# EAGLE library part HMC5843 (library 3DRobotics_Master_Library)
The Honeywell HMC5843 is a surface mount multi-chip module designed for low field magnetic sensing with a digital interface for applications such as low cost compassing and magnetometry. The HMC5843 includes our state of the art 1043 series magneto-resistive sensors plus Honeywell developed ASIC containing amplification, strap drivers, offset cancellation, 12-bit ADC and an I2C serial bus interface. The HMC5843 is in a 4.0 by 4.0 by 1.3mm surface mount leadless chip carrier (LCC). Applications for the HMC5843 include Consumer Electronics, Auto Navigation Systems, Personal Navigation Devices, and Magnetometers. Desing by Jordi Munoz
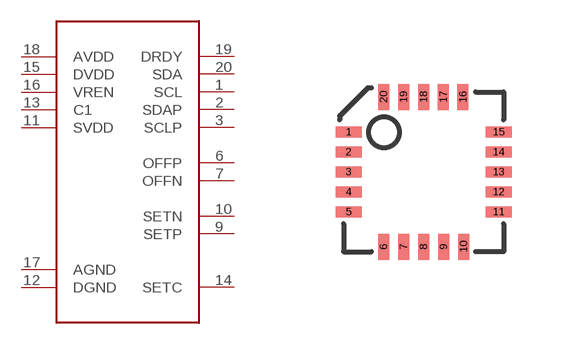
[diagram p5: symbol with the pads of LPCC20; footprint LPCC20]

Designator prefix IC

## HMC5843 (DATASHEET: http://www51.honeywell.com/aero/common/documents/myaerospacecatalog-documents/Defense_Brochures-documents/HMC5843.pdf; MFGPN: HMC5843-TR)  [LPCC20]
1  SCL
2  SDAP
3  SCLP
6  OFFP
7  OFFN
9  SETP
10  SETN
11  SVDD
12  DGND  pwr
13  C1
14  SETC
15  DVDD  pwr
16  VREN
17  AGND  pwr
18  AVDD  pwr
19  DRDY
20  SDA

## Footprint LPCC20 (pad centres in mm)
smd 0.65 x 0.275: 1 -1.875,1; 2 -1.875,0.5; 3 -1.875,0; 4 -1.875,-0.5; 5 -1.875,-1; 11 1.875,-1; 12 1.875,-0.5; 13 1.875,0; 14 1.875,0.5; 15 1.875,1
smd 0.275 x 0.65: 6 -1,-1.875; 7 -0.5,-1.875; 8 0,-1.875; 9 0.5,-1.875; 10 1,-1.875; 16 0.985,1.875; 17 0.495,1.875; 18 0,1.875; 19 -0.5,1.875; 20 -1,1.875